# EAGLE library part GE863_GPS (library untitled)
GE863 Cellular Module with GPS Proto layout and schematic for GE863 cellular module with SiRF III GPS. Spark Fun Electronics SKU : CEL-08246
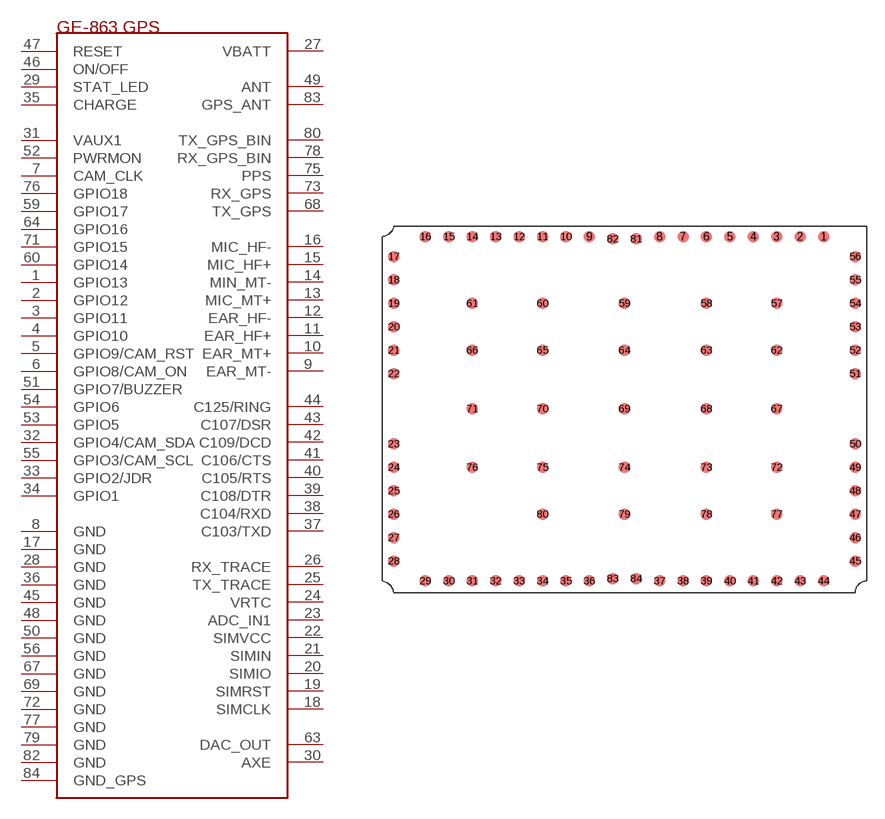
[diagram p69: symbol with the pads of GE863; footprint GE863]

Designator prefix -

## GE863_GPS  [GE863]
1  GPIO13
2  GPIO12
3  GPIO11
4  GPIO10
5  GPIO9/CAM_RST
6  GPIO8/CAM_ON
7  CAM_CLK
8  GND
9  EAR_MT-
10  EAR_MT+
11  EAR_HF+
12  EAR_HF-
13  MIC_MT+
14  MIN_MT-
15  MIC_HF+
16  MIC_HF-
17  GND
18  SIMCLK
19  SIMRST
20  SIMIO
21  SIMIN
22  SIMVCC
23  ADC_IN1
24  VRTC
25  TX_TRACE
26  RX_TRACE
27  VBATT
28  GND
29  STAT_LED
30  AXE
31  VAUX1
32  GPIO4/CAM_SDA
33  GPIO2/JDR
34  GPIO1
35  CHARGE
36  GND
37  C103/TXD
38  C104/RXD
39  C108/DTR
40  C105/RTS
41  C106/CTS
42  C109/DCD
43  C107/DSR
44  C125/RING
45  GND
46  ON/OFF
47  RESET
48  GND
49  ANT
50  GND
51  GPIO7/BUZZER
52  PWRMON
53  GPIO5
54  GPIO6
55  GPIO3/CAM_SCL
56  GND
59  GPIO17
60  GPIO14
63  DAC_OUT
64  GPIO16
67  GND
68  TX_GPS
69  GND
71  GPIO15
72  GND
73  RX_GPS
75  PPS
76  GPIO18
77  GND
78  RX_GPS_BIN
79  GND
80  TX_GPS_BIN
82  GND
83  GPS_ANT
84  GND_GPS

## Footprint GE863 (pad centres in mm)
smd 1 x 1: 1 17,14.7; 2 15,14.7; 3 13,14.7; 4 11,14.7; 5 9,14.7; 6 7,14.7; 7 5,14.7; 8 3,14.7; 9 -3,14.7; 10 -5,14.7; 11 -7,14.7; 12 -9,14.7; 13 -11,14.7; 14 -13,14.7; 15 -15,14.7; 16 -17,14.7; 17 -19.7,13; 18 -19.7,11; 19 -19.7,9; 20 -19.7,7; 21 -19.7,5; 22 -19.7,3; 23 -19.7,-3; 24 -19.7,-5; 25 -19.7,-7; 26 -19.7,-9; 27 -19.7,-11; 28 -19.7,-13; 29 -17,-14.7; 30 -15,-14.7; 31 -13,-14.7; 32 -11,-14.7; 33 -9,-14.7; 34 -7,-14.7; 35 -5,-14.7; 36 -3,-14.7; 37 3,-14.7; 38 5,-14.7; 39 7,-14.7; 40 9,-14.7; 41 11,-14.7; 42 13,-14.7; 43 15,-14.7; 44 17,-14.7; 45 19.7,-13; 46 19.7,-11; 47 19.7,-9; 48 19.7,-7; 49 19.7,-5; 50 19.7,-3; 51 19.7,3; 52 19.7,5; 53 19.7,7; 54 19.7,9; 55 19.7,11; 56 19.7,13; 57 13,9; 58 7,9; 59 0,9; 60 -7,9; 61 -13,9; 62 13,5; 63 7,5; 64 0,5; 65 -7,5; 66 -13,5; 67 13,0; 68 7,0; 69 0,0; 70 -7,0; 71 -13,0; 72 13,-5; 73 7,-5; 74 0,-5; 75 -7,-5; 76 -13,-5; 77 13,-9; 78 7,-9; 79 0,-9; 80 -7,-9; 81 1,14.5; 82 -1,14.5; 83 -1,-14.5; 84 1,-14.5